# EAGLE library part RELAIS (library relais)
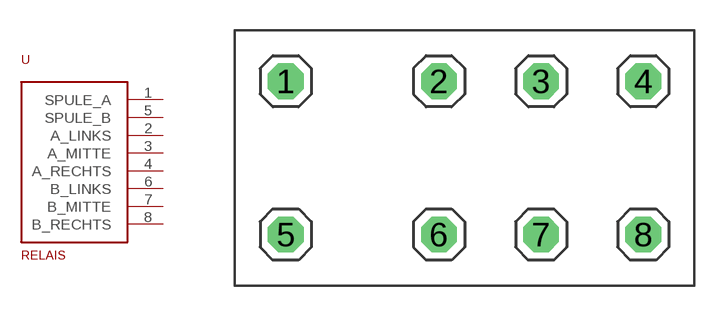
[diagram p0: symbol with the pads of 1X01; footprint 1X01]

Designator prefix -

## RELAIS  [1X01]
1  SPULE_A
2  A_LINKS
3  A_MITTE
4  A_RECHTS
5  SPULE_B
6  B_LINKS
7  B_MITTE
8  B_RECHTS

## Footprint 1X01 (pad centres in mm)
PIN HEADER
drill 0.5 pad 1.778 octagon: 1 -8.89,3.81; 2 -1.27,3.81; 3 3.81,3.81; 4 8.89,3.81; 5 -8.89,-3.81; 6 -1.27,-3.81; 7 3.81,-3.81; 8 8.89,-3.81